# Altium footprint library HyTechDevices.PCBLIB: 204 footprints (part 10 of 13)
Each footprint in its own frame and in the unit in brackets; x right, y up, seen from the top. Pads: shape width x height; smd on the part's side, far side on the other; paste and mask are expansions set on the pad; w line width, h text height; cw(c..) or ccw(c..) is an arc to the next point about the centre after c.
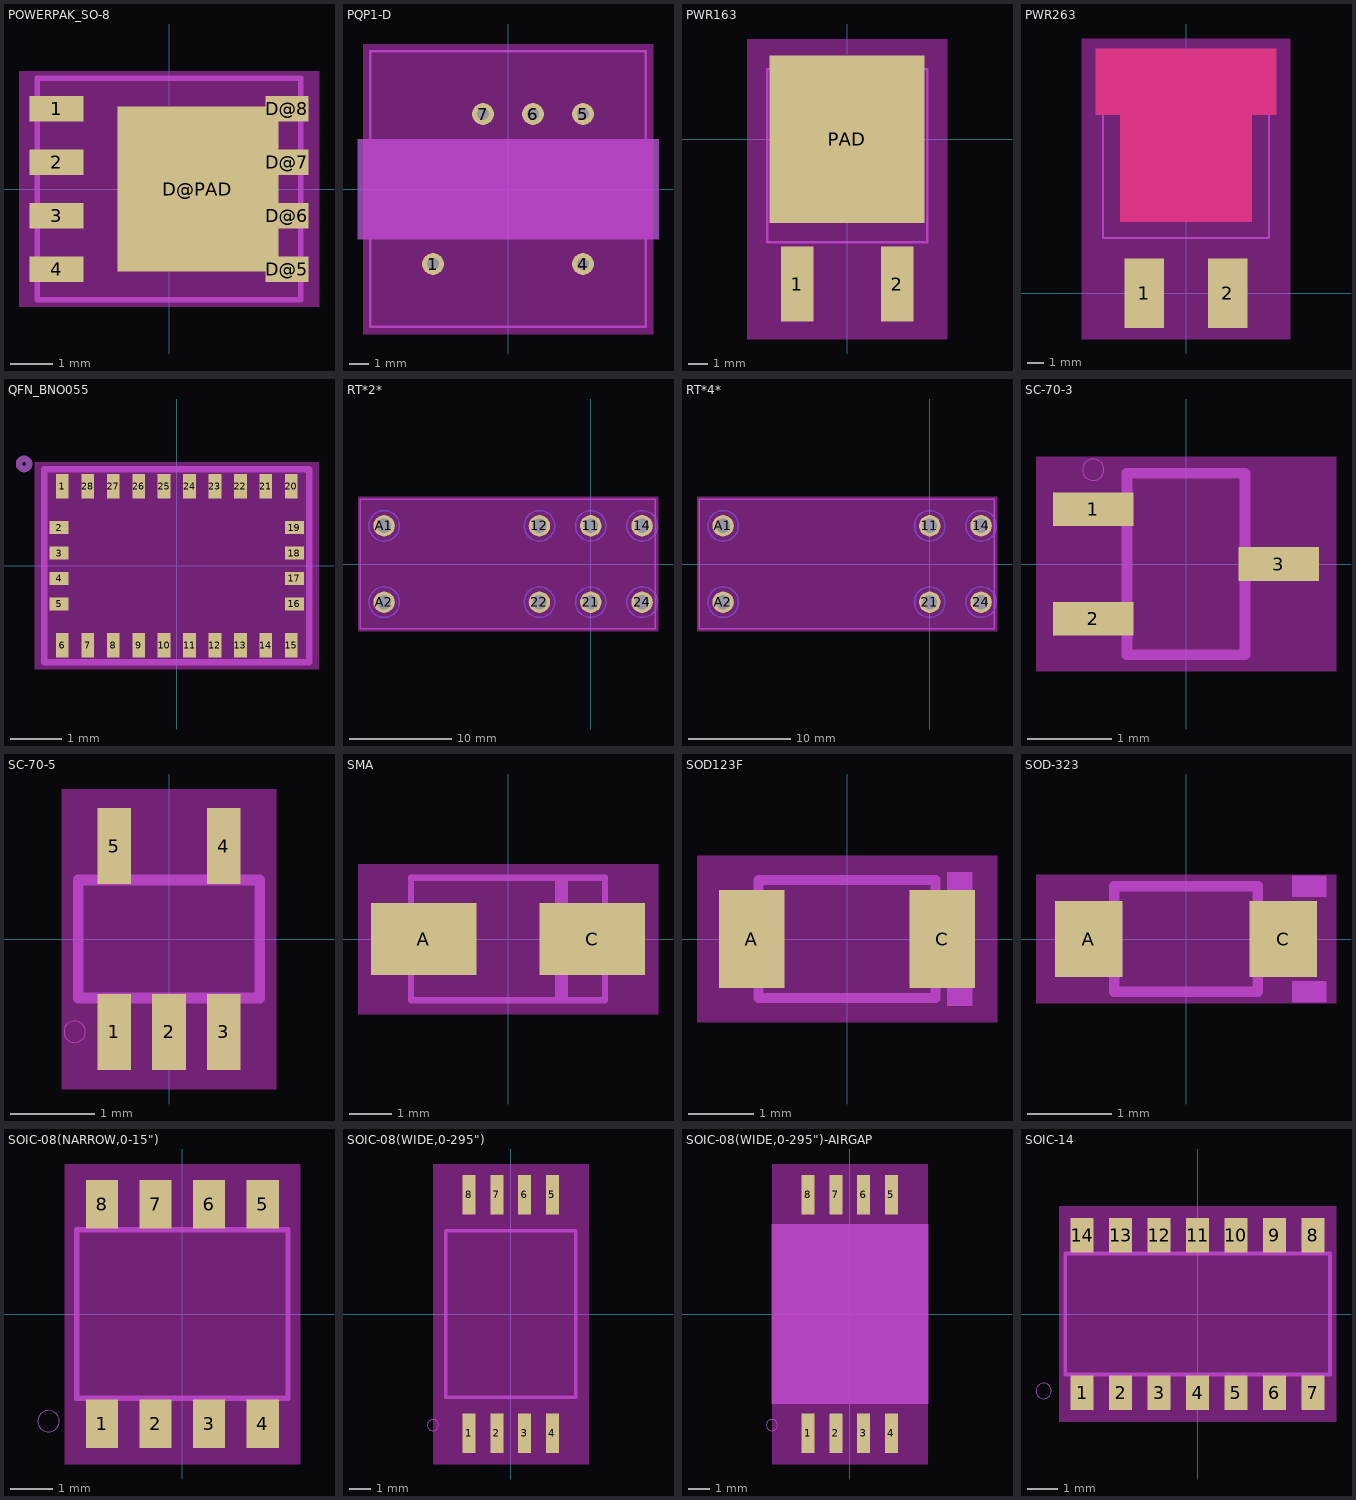
[diagram p9: the footprints below, top view; thin cyan lines are the x and y axes]

## POWERPAK_SO-8 [mil]
pads (9):
  rect 50x24 smd: 1(-105,75) 2(-105,25) 3(-105,-25) 4(-105,-75)
  rect 40x24 smd: D@5(110,-75) D@6(110,-25) D@7(110,25) D@8(110,75)
  rect 150x154 smd: D@PAD(27,0)
Top keep-out:
  region: -140,-110 -140,110 140,110 140,-110
bPlace:
  lines w5: -123,-103.5 123,-103.5 123,103.5 -123,103.5 -123,-103.5

## PQP1-D [mil]
pads (5):
  round 43.62 hole 23.62: 1(-150,-150) 4(150,-150) 5(150,150) 6(50,150) 7(-50,150)
Top keep-out:
  region: -290,-290 -290,290 290,290 290,-290
Dimension:
  region: -300,100 300,100 300,-100 -300,-100
  lines w0: -300,-100 300,-100 300,100 -300,100 -300,-100
Milling:
  region: -300,100 300,100 300,-100 -300,-100
tPlace:
  lines w5: -275.59,-275.59 275.59,-275.59 275.59,275.59 -275.59,275.59 -275.59,-275.59

## PWR163 [mil]
pads (3):
  rect 65x150 smd: 1(-100,-290) 2(100,-290)
  rect 310x335 smd: PAD(0,0)
Top keep-out:
  region: -200,-400 -200,200 200,200 200,-400
tPlace:
  lines w5: -160,-206 160,-206 160,140 -160,140 -160,-206

## PWR263 [mil]
pads (2):
  rect 94.49x166.54 smd: 1(-100,0) 2(100,0)
Top:
  region: -216.54,586.02 -216.54,427.76 -157.48,427.76 -157.48,171.85 157.48,171.85 157.48,427.76 216.54,427.76 216.54,586.02
Top keep-out:
  region: -250,-110 -250,610 250,610 250,-110
Top Paste:
  region: -216.54,427.76 -216.54,586.02 216.54,586.02 216.54,427.76
  region: -157.48,171.85 -157.48,427.76 157.48,427.76 157.48,171.85
Top Solder:
  region: -220.57,423.72 -220.57,590.06 220.57,590.06 220.57,423.72
  region: -161.52,167.82 -161.52,427.76 161.52,427.76 161.52,167.82
tPlace:
  lines w5: -198.82,132.48 198.82,132.48 198.82,541.93 -198.82,541.93 -198.82,132.48

## QFN_BNO055 [mil]
pads (28):
  rect 9.84x18.7 smd: 1(-88.58,61.52) 6(-88.58,-61.52) 7(-68.9,-61.52) 8(-49.21,-61.52) 9(-29.53,-61.52) 10(-9.84,-61.52) 11(9.84,-61.52) 12(29.53,-61.52) 13(49.21,-61.52) 14(68.9,-61.52) 15(88.58,-61.52) 20(88.58,61.52) 21(68.9,61.52) 22(49.21,61.52) 23(29.53,61.52) 24(9.84,61.52) 25(-9.84,61.52) 26(-29.53,61.52) 27(-49.21,61.52) 28(-68.9,61.52)
  rect 14.76x9.84 smd: 2(-91.04,29.53) 3(-91.04,9.84) 4(-91.04,-9.84) 5(-91.04,-29.53) 16(91.04,-29.53) 17(91.04,-9.84) 18(91.04,9.84) 19(91.04,29.53)
Top keep-out:
  region: -110,-80 -110,80 110,80 110,-80
tPlace:
  circle w5: c-118.11,78.74 r3.94
  lines w5: -102.36,-74.8 102.36,-74.8 102.36,74.8 -102.36,74.8 -102.36,-74.8

## RT*2* [mil]
pads (8):
  round 82.68 hole 55.12: 11(0,147.64) 12(-198.43,147.64) 14(198.43,147.64) 21(0,-147.64) 22(-198.43,-147.64) 24(198.43,-147.64) A1(-799.21,147.64) A2(-799.21,-147.64)
Top keep-out:
  region: -900,-260 -900,260 260,260 260,-260
Bottom keep-out:
  circle w5: c-799.21,147.64 r59.06
  circle w5: c-799.21,-147.64 r59.06
  circle w5: c-198.43,147.64 r59.06
  circle w5: c-198.43,-147.64 r59.06
  circle w5: c0,147.64 r59.06
  circle w5: c0,-147.64 r59.06
  circle w5: c198.43,147.64 r59.06
  circle w5: c198.43,-147.64 r59.06
tPlace:
  lines w5: -891.73,-250 -891.73,250 250,250 250,-250 -891.73,-250

## RT*4* [mil]
pads (6):
  round 82.68 hole 55.12: 11(0,147.64) 14(198.43,147.64) 21(0,-147.64) 24(198.43,-147.64) A1(-799.21,147.64) A2(-799.21,-147.64)
Top keep-out:
  region: -900,-260 -900,260 260,260 260,-260
Bottom keep-out:
  circle w5: c-799.21,147.64 r59.06
  circle w5: c-799.21,-147.64 r59.06
  circle w5: c0,147.64 r59.06
  circle w5: c0,-147.64 r59.06
  circle w5: c198.43,147.64 r59.06
  circle w5: c198.43,-147.64 r59.06
tPlace:
  lines w5: -891.73,-250 -891.73,250 250,250 250,-250 -891.73,-250

## SC-70-3 [mm]
pads (3):
  rect 0.95x0.4 smd: 1(-1.1,0.65) 2(-1.1,-0.65) 3(1.1,0)
Top keep-out:
  region: -1.778,-1.27 -1.778,1.27 1.778,1.27 1.778,-1.27
tPlace:
  circle w0: c-1.1,1.118 r0.127
  lines w0.127: -0.7,-1.075 -0.7,1.075 0.7,1.075 0.7,-1.075 -0.7,-1.075

## SC-70-5 [mm]
pads (5):
  rect 0.4x0.9 smd: 1(-0.65,-1.1) 2(0,-1.1) 3(0.65,-1.1) 4(0.65,1.1) 5(-0.65,1.1)
Top keep-out:
  region: -1.27,-1.778 -1.27,1.778 1.27,1.778 1.27,-1.778
tPlace:
  circle w0: c-1.118,-1.1 r0.127
  lines w0.127: -1.075,-0.7 1.075,-0.7 1.075,0.7 -1.075,0.7 -1.075,-0.7

## SMA [mm]
pads (2):
  rect 2.5x1.7 smd: A(-2,0) C(2,0)
Top keep-out:
  region: 3.556,1.778 3.556,-1.778 -3.556,-1.778 -3.556,1.778
tPlace:
  lines w0.152: -2.3,-1.45 -2.3,1.45 2.3,1.45 2.3,-1.45 -2.3,-1.45
  lines w0.305: 1.27,-1.372 1.27,1.372

## SOD123F [mm]
pads (2):
  rect 1x1.5 smd: A(-1.45,0) C(1.45,0)
Top keep-out:
  region: -2.286,-1.27 -2.286,1.27 2.286,1.27 2.286,-1.27
tPlace:
  region: 1.524,-1.016 1.524,1.016 1.905,1.016 1.905,-1.016
  lines w0.152: -1.35,-0.9 -1.35,0.9 1.35,0.9 1.35,-0.9 -1.35,-0.9

## SOD-323 [mil]
pads (2):
  rect 31.5x35.43 smd: A(-45.28,0) C(45.28,0)
Top keep-out:
  region: -70,-30 -70,30 70,30 70,-30
tPlace:
  region: 49.65,19.69 49.65,29.53 65.39,29.53 65.39,19.69
  region: 49.65,-29.53 49.65,-19.69 65.39,-19.69 65.39,-29.53
  lines w5: -33.46,-24.61 -33.46,24.61 33.46,24.61 33.46,-24.61 -33.46,-24.61

## SOIC-08(NARROW,0-15") [mil]
pads (8):
  rect 30x45 smd: 1(-75,-102.5) 2(-25,-102.5) 3(25,-102.5) 4(75,-102.5) 5(75,102.5) 6(25,102.5) 7(-25,102.5) 8(-75,102.5)
Top keep-out:
  region: -110,-140 -110,140 110,140 110,-140
tPlace:
  circle w0: c-125,-100 r10
  lines w5: -98.5,-78.5 98.5,-78.5 98.5,78.5 -98.5,78.5 -98.5,-78.5

## SOIC-08(WIDE,0-295") [mil]
pads (8):
  rect 23.62x70.87 smd: 1(-75,-214.57) 2(-25,-214.57) 3(25,-214.57) 4(75,-214.57) 5(75,214.57) 6(25,214.57) 7(-25,214.57) 8(-75,214.57)
Top keep-out:
  region: -140,-270 -140,270 140,270 140,-270
tPlace:
  circle w0: c-140,-200 r10
  lines w6: -117.13,-150 117.13,-150 117.13,150 -117.13,150 -117.13,-150

## SOIC-08(WIDE,0-295")-AIRGAP [mil]
pads (8):
  rect 23.62x70.87 smd: 1(-75,-214.57) 2(-25,-214.57) 3(25,-214.57) 4(75,-214.57) 5(75,214.57) 6(25,214.57) 7(-25,214.57) 8(-75,214.57)
Top keep-out:
  region: -140,-270 -140,270 140,270 140,-270
Dimension:
  region: 140,-161.81 -140,-161.81 -140,161.81 140,161.81
Milling:
  lines w0: -140,-161.81 140,-161.81 140,161.81 -140,161.81 -140,-161.81
tPlace:
  circle w0: c-140,-200 r10
  lines w6: -117.13,-150 117.13,-150 117.13,150 -117.13,150 -117.13,-150

## SOIC-14 [mil]
pads (14):
  rect 30x45 smd: 1(-150,-102.5) 2(-100,-102.5) 3(-50,-102.5) 4(0,-102.5) 5(50,-102.5) 6(100,-102.5) 7(150,-102.5) 8(150,102.5) 9(100,102.5) 10(50,102.5) 11(0,102.5) 12(-50,102.5) 13(-100,102.5) 14(-150,102.5)
Top keep-out:
  region: -180,-140 -180,140 180,140 180,-140
tPlace:
  circle w0: c-200,-100 r10
  lines w5: -172,-78.5 172,-78.5 172,78.5 -172,78.5 -172,-78.5